# EAGLE library part MURATA_DC-DC (library POWER_DISTRO)
UWS Series DC-CD, Thru-hole
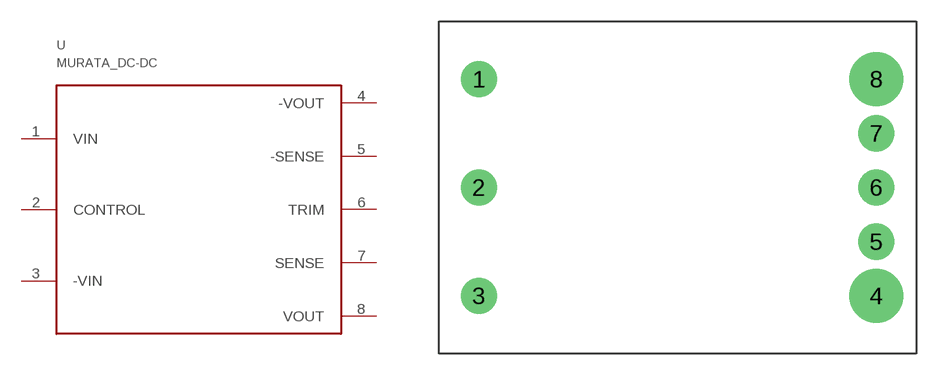
[diagram p0: symbol with the pads of 8PIN_THRU; footprint 8PIN_THRU]

Designator prefix -

## MURATA_DC-DCTHRU  [8PIN_THRU]
1  VIN
2  CONTROL
3  -VIN
4  -VOUT
5  -SENSE
6  TRIM
7  SENSE
8  VOUT

## Footprint 8PIN_THRU (pad centres in mm)
8-pin, Through-hole mount
drill 1.575 pad 2.54: 1 -13.97,7.62; 2 -13.97,0; 3 -13.97,-7.62; 5 13.97,-3.81; 6 13.97,0; 7 13.97,3.81
drill 2.134 pad 3.81: 4 13.97,-7.62; 8 13.97,7.62